# Altium footprint library Passive.PcbLib: 235 footprints (part 8 of 15)
Each footprint in its own frame and in the unit in brackets; x right, y up, seen from the top. Pads: shape width x height; smd on the part's side, far side on the other; paste and mask are expansions set on the pad; w line width, h text height; cw(c..) or ccw(c..) is an arc to the next point about the centre after c.
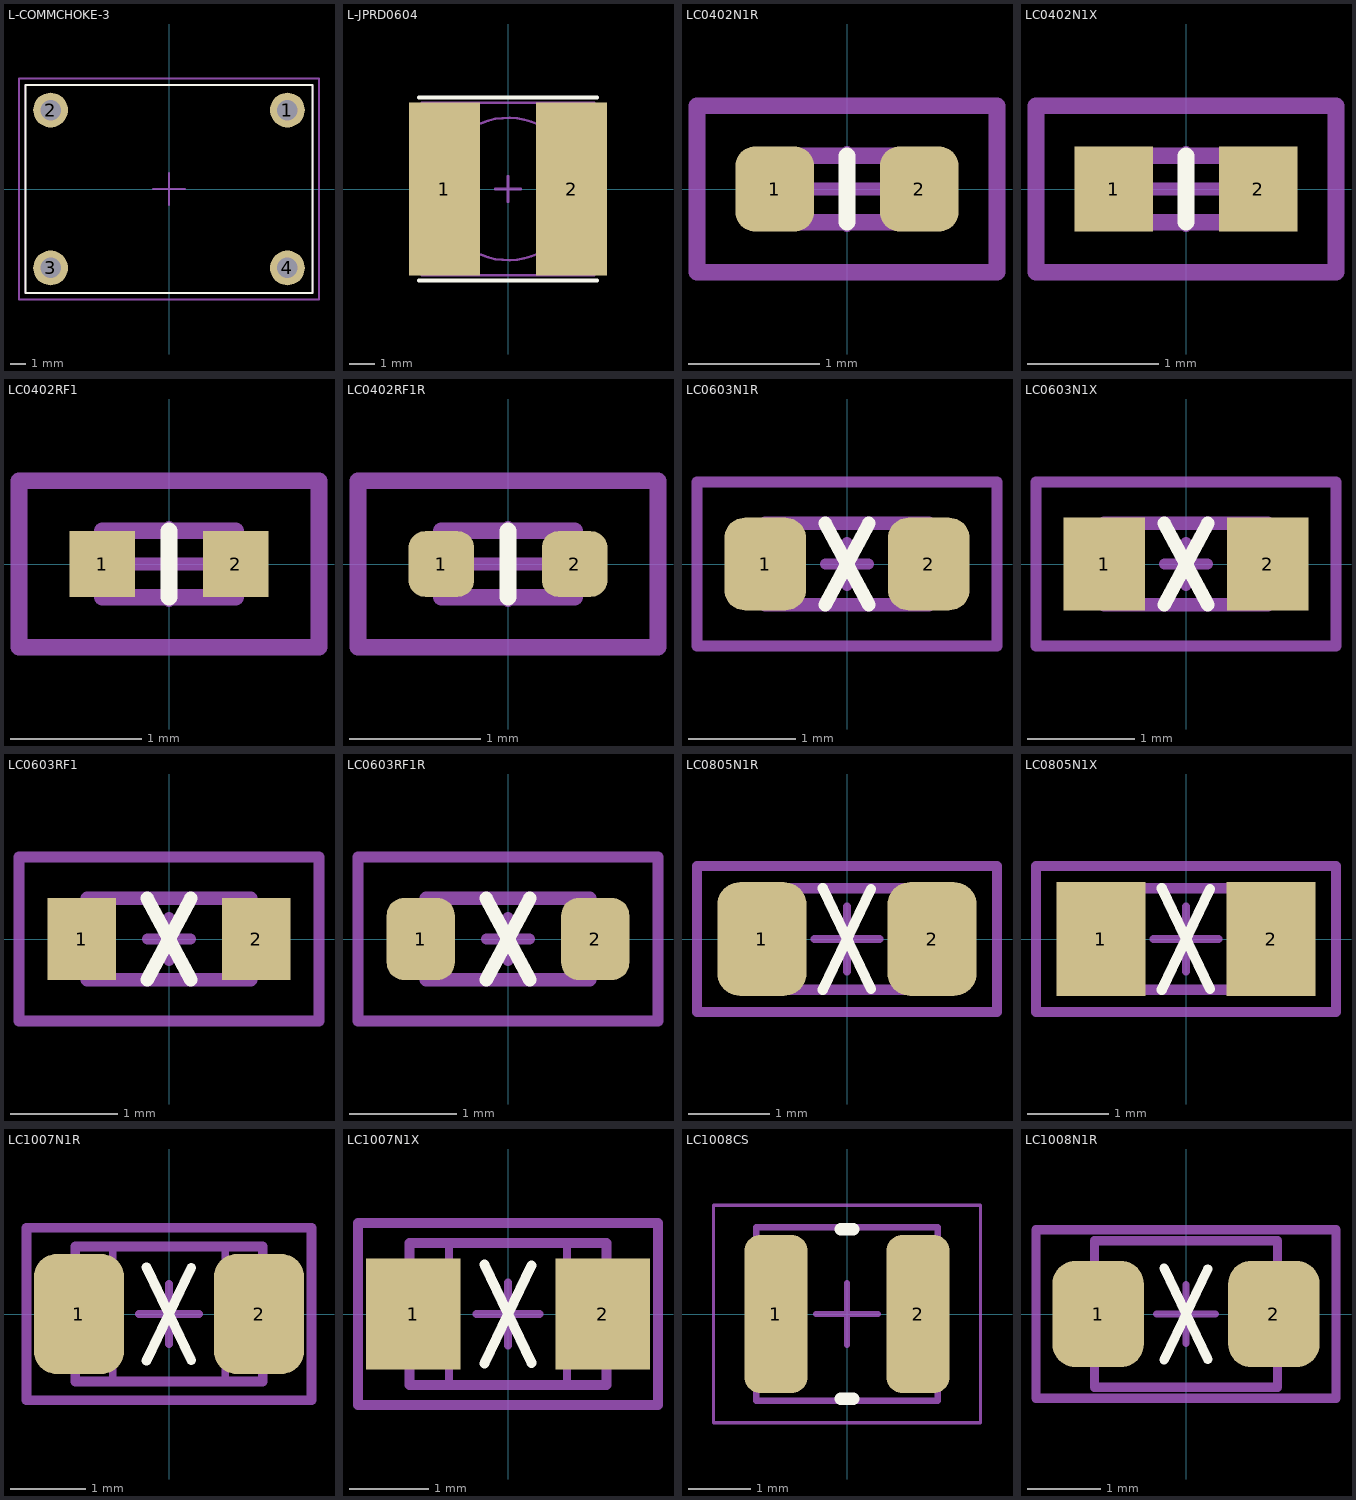
[diagram p7: the footprints below, top view; thin cyan lines are the x and y axes]

## L-COMMCHOKE-3 [mm] "common mode choke 18.2x13.2x20.3mm"
height 20.3
pads (4):
  round 2.2 hole 1.3: 1(7.5,5) 2(-7.5,5) 3(-7.5,-5) 4(7.5,-5)
Top Overlay:
  lines w0.127: -9.1,-6.6 -9.1,6.6 9.1,6.6 9.1,-6.6 -9.1,-6.6
Mechanical 13:
  lines w0.102: -9.1,-6.6 -9.1,6.6 9.1,6.6 9.1,-6.6 -9.1,-6.6
Mechanical 15:
  lines w0.127: -1,0 1,0 ; 0,-1 0,1 ; -9.5,-7 9.5,-7 9.5,7 -9.5,7 -9.5,-7
3D body: height 2.2, standoff 0, extent -3.7,-5 3.7,4.7
3D body: height 2.2, standoff 0, extent -8.3,-5.8 -6.7,-4.2
3D body: height 2.2, standoff 0, extent -8.3,4.2 -6.7,5.8
3D body: height 2.2, standoff 0, extent 6.7,4.2 8.3,5.8
3D body: height 2.2, standoff 0, extent 6.7,-5.8 8.3,-4.2
3D body: height 0, standoff -3.5, extent -8,-5.5 -7,-4.5
3D body: height 0, standoff -3.5, extent 7,-5.5 8,-4.5
3D body: height 0, standoff -3.5, extent 7,4.5 8,5.5
3D body: height 0, standoff -3.5, extent -8,4.5 -7,5.5
3D body: height 20.3, standoff 14.8, extent -6.3,-5 6.3,4.7
3D body: height 14.8, standoff 2.2, extent -8.8,-5 8.8,4.7
3D body: height 7, standoff 2.2, extent 6,-6.5 9,-3.5
3D body: height 7, standoff 2.2, extent -9,-6.5 -6,-3.5
3D body: height 7, standoff 2.2, extent 6,3.5 9,6.5
3D body: height 7, standoff 2.2, extent -9,3.5 -6,6.5

## L-JPRD0604 [mm] "SMD inductor 6.7x6.7x4mm shielded"
height 4.5
pads (2):
  rect 2.8x6.8 smd: 1(-2.5,0) 2(2.5,0)
Top Overlay:
  lines w0.15: -3.5,-3.6 3.5,-3.6 ; -3.5,3.6 3.5,3.6
Mechanical 13:
  circle w0.1: c0,0 r2.8
  lines w0.102: -3.4,-3.4 3.4,-3.4 3.4,3.4 -3.4,3.4 -3.4,-3.4
Mechanical 15:
  lines w0.102: -0.5,0 0.5,0 ; 0,-0.5 0,0.5
3D body: height 4.5, standoff 0, extent -3.4,-3.4 3.4,3.4

## LC0402N1R [mm] "Chip inductor 0402 ROUNDED PAD"
height 1.5
pads (2):
  rrect50% 0.6x0.65 smd: 1(-0.55,0) 2(0.55,0)
Top Overlay:
  lines w0.127: 0,-0.254 0,0.254
Mechanical 13:
  lines w0.127: -0.508,-0.254 0.508,-0.254 0.508,0.254 -0.508,0.254 -0.508,-0.254
Mechanical 15:
  lines w0.102: -0.3,0 0.3,0 ; 0,-0.275 0,0.275
  lines w0.127: -1.143,-0.635 -1.143,0.635 1.143,0.635 1.143,-0.635 -1.143,-0.635
3D body: height 0.5, standoff 0, extent -0.3,-0.254 0.3,0.254
3D body: height 0.5, standoff 0, extent 0.3,-0.254 0.508,0.254
3D body: height 0.5, standoff 0, extent -0.508,-0.254 -0.3,0.254

## LC0402N1X [mm] "Chip inductor 0402"
height 1.5
pads (2):
  rect 0.6x0.65 smd: 1(-0.55,0) 2(0.55,0)
Top Overlay:
  lines w0.127: 0,-0.254 0,0.254
Mechanical 13:
  lines w0.127: -0.508,-0.254 0.508,-0.254 0.508,0.254 -0.508,0.254 -0.508,-0.254
Mechanical 15:
  lines w0.102: -0.3,0 0.3,0 ; 0,-0.275 0,0.275
  lines w0.127: -1.143,-0.635 -1.143,0.635 1.143,0.635 1.143,-0.635 -1.143,-0.635
3D body: height 0.5, standoff 0, extent -0.3,-0.254 0.3,0.254
3D body: height 0.5, standoff 0, extent 0.3,-0.254 0.508,0.254
3D body: height 0.5, standoff 0, extent -0.508,-0.254 -0.3,0.254

## LC0402RF1 [mm] "Chip inductor 0402 RF pad"
height 1.5
pads (2):
  rect 0.5x0.5 smd: 1(-0.508,0) 2(0.508,0)
Top Overlay:
  lines w0.127: 0,-0.254 0,0.254
Mechanical 13:
  lines w0.127: -0.508,-0.254 -0.508,0.254 0.508,0.254 0.508,-0.254 -0.508,-0.254
Mechanical 15:
  lines w0.102: -0.3,0 0.3,0 ; 0,-0.275 0,0.275
  lines w0.127: -1.143,-0.635 1.143,-0.635 1.143,0.635 -1.143,0.635 -1.143,-0.635
3D body: height 0.5, standoff 0, extent -0.508,-0.254 -0.3,0.254
3D body: height 0.5, standoff 0, extent 0.3,-0.254 0.508,0.254
3D body: height 0.5, standoff 0, extent -0.3,-0.254 0.3,0.254

## LC0402RF1R [mm] "Chip inductor 0402 RF pad ROUNDED PAD"
height 1.5
pads (2):
  rrect50% 0.5x0.5 smd: 1(-0.508,0) 2(0.508,0)
Top Overlay:
  lines w0.127: 0,-0.254 0,0.254
Mechanical 13:
  lines w0.127: -0.508,-0.254 -0.508,0.254 0.508,0.254 0.508,-0.254 -0.508,-0.254
Mechanical 15:
  lines w0.102: -0.3,0 0.3,0 ; 0,-0.275 0,0.275
  lines w0.127: -1.143,-0.635 1.143,-0.635 1.143,0.635 -1.143,0.635 -1.143,-0.635
3D body: height 0.5, standoff 0, extent -0.508,-0.254 -0.3,0.254
3D body: height 0.5, standoff 0, extent 0.3,-0.254 0.508,0.254
3D body: height 0.5, standoff 0, extent -0.3,-0.254 0.3,0.254

## LC0603N1R [mil] "Chip  inductor  0603 ROUNDED PAD"
height 59.06
pads (2):
  rrect50% 30x34 smd: 1(-30,0) 2(30,0)
Top Overlay:
  lines w5: -8,-15 8,15 ; -8,15 8,-15
Mechanical 13:
  lines w5: -30,-15 30,-15 30,15 -30,15 -30,-15
Mechanical 15:
  lines w3.94: -7.87,0 7.87,0 ; 0,-7.87 0,7.87
  lines w4: -55,-30 55,-30 55,30 -55,30 -55,-30
3D body: height 27.56, standoff 0, extent -20,-15 20,15
3D body: height 27.56, standoff 0, extent 20,-15 30,15
3D body: height 27.56, standoff 0, extent -30,-15 -20,15

## LC0603N1X [mil] "Chip  inductor  0603"
height 59.06
pads (2):
  rect 30x34 smd: 1(-30,0) 2(30,0)
Top Overlay:
  lines w5: -8,-15 8,15 ; -8,15 8,-15
Mechanical 13:
  lines w5: -30,-15 30,-15 30,15 -30,15 -30,-15
Mechanical 15:
  lines w3.94: -7.87,0 7.87,0 ; 0,-7.87 0,7.87
  lines w4: -55,-30 55,-30 55,30 -55,30 -55,-30
3D body: height 27.56, standoff 0, extent -20,-15 20,15
3D body: height 27.56, standoff 0, extent 20,-15 30,15
3D body: height 27.56, standoff 0, extent -30,-15 -20,15

## LC0603RF1 [mil] "Chip  inductor  0603 RF pad"
height 59.06
pads (2):
  rect 25x30 smd: 1(-32,0) 2(32,0)
Top Overlay:
  lines w5: -8,-15 8,15 ; -8,15 8,-15
Mechanical 13:
  lines w5: -30,-15 30,-15 30,15 -30,15 -30,-15
Mechanical 15:
  lines w3.94: -7.87,0 7.87,0 ; 0,-7.87 0,7.87
  lines w4: -55,-30 55,-30 55,30 -55,30 -55,-30
3D body: height 27.56, standoff 0, extent -30,-15 -20,15
3D body: height 27.56, standoff 0, extent 20,-15 30,15
3D body: height 27.56, standoff 0, extent -20,-15 20,15

## LC0603RF1R [mil] "Chip  inductor  0603 RF pad ROUNDED PAD"
height 59.06
pads (2):
  rrect50% 25x30 smd: 1(-32,0) 2(32,0)
Top Overlay:
  lines w5: -8,-15 8,15 ; -8,15 8,-15
Mechanical 13:
  lines w5: -30,-15 -30,15 30,15 30,-15 -30,-15
Mechanical 15:
  lines w3.94: -7.87,0 7.87,0 ; 0,-7.87 0,7.87
  lines w4: -55,-30 -55,30 55,30 55,-30 -55,-30
3D body: height 27.56, standoff 0, extent -20,-15 20,15
3D body: height 27.56, standoff 0, extent 20,-15 30,15
3D body: height 27.56, standoff 0, extent -30,-15 -20,15

## LC0805N1R [mm] "Chip inductor  0805 ROUNDED PAD"
height 1.8
pads (2):
  rrect50% 1.1x1.4 smd: 1(-1.05,0) 2(1.05,0)
Top Overlay:
  lines w0.127: -0.3,-0.625 0.296,0.616 ; -0.3,0.625 0.296,-0.618
Mechanical 13:
  lines w0.127: -1,-0.625 -1,0.625 1,0.625 1,-0.625 -1,-0.625
Mechanical 15:
  lines w0.102: -0.4,0 0.4,0 ; 0,-0.4 0,0.4
  lines w0.127: -1.85,-0.9 -1.85,0.9 1.85,0.9 1.85,-0.9 -1.85,-0.9
3D body: height 1.35, standoff 0, extent 0.673,-0.625 1,0.625
3D body: height 1.35, standoff 0, extent -0.673,-0.625 0.673,0.625
3D body: height 1.35, standoff 0, extent -1,-0.625 -0.673,0.625

## LC0805N1X [mm] "Chip inductor  0805"
height 1.8
pads (2):
  rect 1.1x1.4 smd: 1(-1.05,0) 2(1.05,0)
Top Overlay:
  lines w0.127: -0.3,-0.625 0.296,0.616 ; -0.3,0.625 0.296,-0.618
Mechanical 13:
  lines w0.127: -1,-0.625 1,-0.625 1,0.625 -1,0.625 -1,-0.625
Mechanical 15:
  lines w0.102: -0.4,0 0.4,0 ; 0,-0.4 0,0.4
  lines w0.127: -1.85,-0.9 1.85,-0.9 1.85,0.9 -1.85,0.9 -1.85,-0.9
3D body: height 1.35, standoff 0, extent -1,-0.625 -0.673,0.625
3D body: height 1.35, standoff 0, extent -0.673,-0.625 0.673,0.625
3D body: height 1.35, standoff 0, extent 0.673,-0.625 1,0.625

## LC1007N1R [mm] "Chip inductor  1007"
height 1.8
pads (2):
  rrect50% 1.2x1.6 smd: 1(-1.2,0) 2(1.2,0)
Top Overlay:
  lines w0.127: -0.3,-0.625 0.296,0.616 ; -0.3,0.625 0.296,-0.618
Mechanical 13:
  lines w0.102: -0.75,-0.9 -0.75,0.9 ; 0.75,-0.9 0.75,0.9
  lines w0.127: -1.25,-0.9 1.25,-0.9 1.25,0.9 -1.25,0.9 -1.25,-0.9
Mechanical 15:
  lines w0.102: -0.4,0 0.4,0 ; 0,-0.4 0,0.4
  lines w0.127: -1.9,-1.15 -1.9,1.15 1.9,1.15 1.9,-1.15 -1.9,-1.15
3D body: height 1.8, standoff 0, extent 0.75,-0.9 1.25,0.9
3D body: height 1.8, standoff 0, extent -1.25,-0.9 -0.75,0.9
3D body: height 1.8, standoff 0, extent -0.75,-0.9 0.75,0.9

## LC1007N1X [mm] "Chip inductor  1007"
height 1.8
pads (2):
  rect 1.2x1.4 smd: 1(-1.2,0) 2(1.2,0)
Top Overlay:
  lines w0.127: -0.3,-0.625 0.296,0.616 ; -0.3,0.625 0.296,-0.618
Mechanical 13:
  lines w0.102: -0.75,-0.9 -0.75,0.9 ; 0.75,-0.9 0.75,0.9
  lines w0.127: -1.25,-0.9 1.25,-0.9 1.25,0.9 -1.25,0.9 -1.25,-0.9
Mechanical 15:
  lines w0.102: -0.4,0 0.4,0 ; 0,-0.4 0,0.4
  lines w0.127: -1.9,-1.15 -1.9,1.15 1.9,1.15 1.9,-1.15 -1.9,-1.15
3D body: height 1.8, standoff 0, extent 0.75,-0.9 1.25,0.9
3D body: height 1.8, standoff 0, extent -1.25,-0.9 -0.75,0.9
3D body: height 1.8, standoff 0, extent -0.75,-0.9 0.75,0.9

## LC1008CS [mil] "Chip Inductor, 2-Leads, Body 2,92x2,79mm, IPC Medium Density"
height 79.92
pads (2):
  rrect50% 40x100 smd: 1(-45,0) 2(45,0)
Top Overlay:
  lines w7.87: -3.94,-53.74 3.94,-53.74 ; -3.94,53.74 3.94,53.74
Mechanical 13:
  lines w3.94: -57.48,-54.92 57.48,-54.92 57.48,54.92 -57.48,54.92 -57.48,-54.92
Mechanical 15:
  lines w1.97: -84.65,-68.9 84.65,-68.9 84.65,68.9 -84.65,68.9 -84.65,-68.9
  lines w3.94: -19.68,0 19.69,0 ; 0,-19.68 0,19.69
3D body: height 60, standoff 0, extent -50.48,-40 -30,40
3D body: height 60, standoff 0, extent -30,-54.92 30,54.92
3D body: height 60, standoff 0, extent 30,-40 50.48,40
3D body: height 80, standoff 60, extent -57.48,-54.92 57.48,54.92

## LC1008N1R [mm] "Chip inductor 1008 ROUNDED PAD"
height 2
pads (2):
  rrect50% 1.25x1.45 smd: 1(-1.2,0) 2(1.2,0)
Top Overlay:
  lines w0.127: -0.3,-0.625 0.296,0.616 ; -0.3,0.625 0.296,-0.618
Mechanical 13:
  lines w0.127: -1.25,-1 1.25,-1 1.25,1 -1.25,1 -1.25,-1
Mechanical 15:
  lines w0.102: -0.4,0 0.4,0 ; 0,-0.4 0,0.4
  lines w0.127: -2.05,-1.15 -2.05,1.15 2.05,1.15 2.05,-1.15 -2.05,-1.15
3D body: height 1.35, standoff 0, extent -1.25,-1 1.25,1